# EAGLE library part GL865-ATTO (library X893)
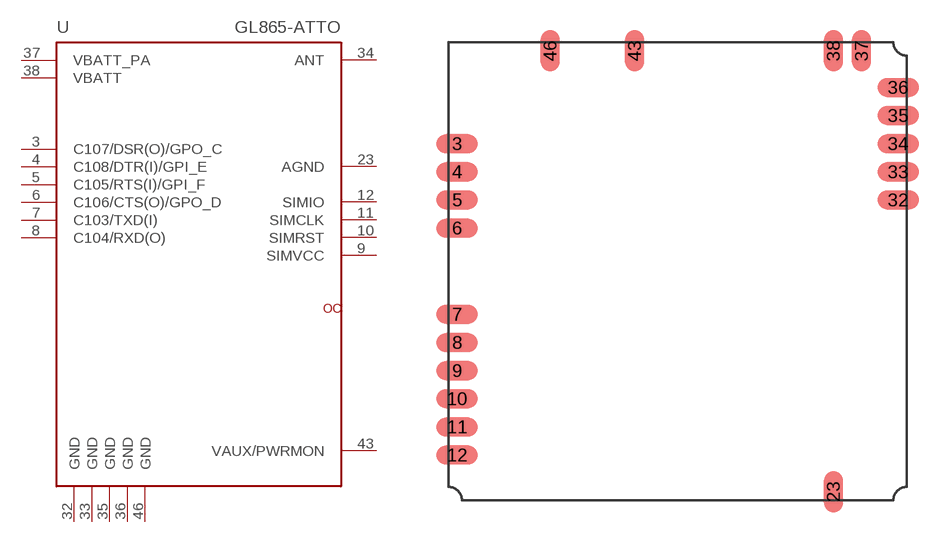
[diagram p111: symbol with the pads of GL865-ATTO; footprint GL865-ATTO]

Designator prefix U

## GL865-ATTO  [GL865-ATTO]
3  C107/DSR(O)/GPO_C  out
4  C108/DTR(I)/GPI_E  in
5  C105/RTS(I)/GPI_F  in
6  C106/CTS(O)/GPO_D  out
7  C103/TXD(I)  in
8  C104/RXD(O)  out
9  SIMVCC  pas
10  SIMRST  out
11  SIMCLK  out
12  SIMIO
23  AGND  pas
32  GND  pwr
33  GND  pwr
34  ANT  pas
35  GND  pwr
36  GND  pwr
37  VBATT_PA  pas
38  VBATT  pas
43  VAUX/PWRMON  out
46  GND  pwr

## Footprint GL865-ATTO (pad centres in mm)
smd 2.2 x 1: 3 -11.75,6.8; 4 -11.75,5.3; 5 -11.75,3.8; 6 -11.75,2.3; 7 -11.75,-2.3; 8 -11.75,-3.8; 9 -11.75,-5.3; 10 -11.75,-6.8; 11 -11.75,-8.3; 12 -11.75,-9.8; 32 11.75,3.8; 33 11.75,5.3; 34 11.75,6.8; 35 11.75,8.3; 36 11.75,9.8
smd 1 x 2.2: 23 8.3,-11.75; 37 9.8,11.75; 38 8.3,11.75; 43 -2.3,11.75; 46 -6.8,11.75